# EAGLE library part TMS320VC5402 (library ti-dsp)
DSP Fixed Point
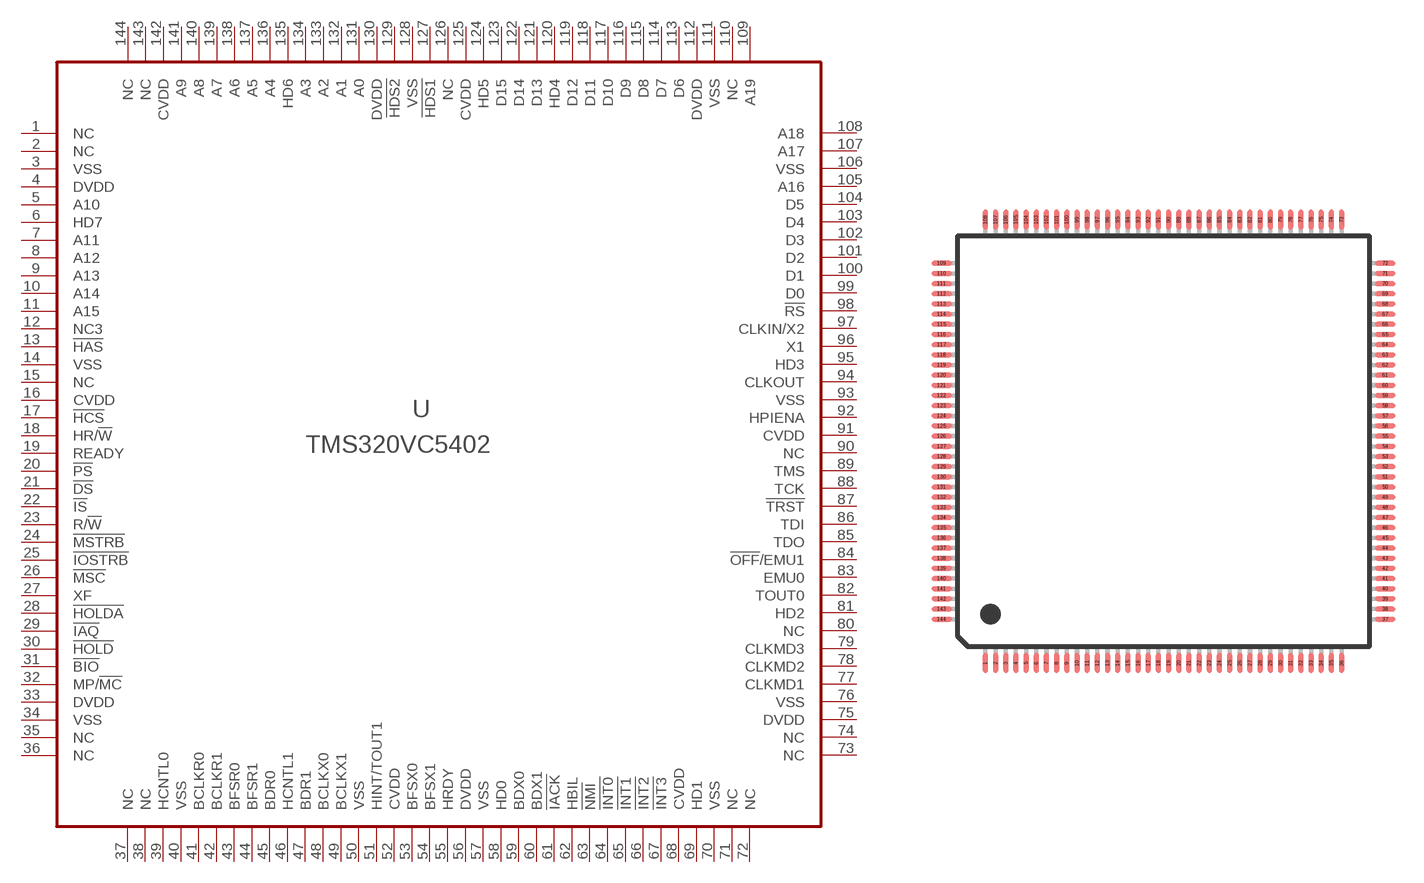
[diagram p0: symbol with the pads of PQFP144; footprint PQFP144]

Designator prefix U

## TMS320VC5402PGE  [PQFP144]
1  NC  pas
2  NC  pas
3  VSS  pwr
4  DVDD  pwr
5  A10  out
6  HD7
7  A11  out
8  A12  out
9  A13  out
10  A14  out
11  A15  out
12  NC3  pas
13  !HAS!  in
14  VSS  pwr
15  NC  pas
16  CVDD  pwr
17  !HCS!  in
18  HR/!W!  in
19  READY  in
20  !PS!  out
21  !DS!  out
22  !IS!  out
23  R/!W!  out
24  !MSTRB!  out
25  !IOSTRB!  out
26  !MSC!  out
27  XF  out
28  !HOLDA!  out
29  !IAQ!  out
30  !HOLD!  in
31  !BIO!  in
32  MP/!MC!  in
33  DVDD  pwr
34  VSS  pwr
35  NC  pas
36  NC  pas
37  NC  pas
38  NC  pas
39  HCNTL0  in
40  VSS  pwr
41  BCLKR0
42  BCLKR1
43  BFSR0
44  BFSR1
45  BDR0  in
46  HCNTL1  in
47  BDR1  in
48  BCLKX0
49  BCLKX1
50  VSS  pwr
51  HINT/TOUT1  out
52  CVDD  pwr
53  BFSX0
54  BFSX1
55  HRDY  out
56  DVDD  pwr
57  VSS  pwr
58  HD0
59  BDX0  out
60  BDX1  out
61  !IACK!  out
62  HBIL  in
63  !NMI!  in
64  !INT0!  in
65  !INT1!  in
66  !INT2!  in
67  !INT3!  in
68  CVDD  pwr
69  HD1
70  VSS  pwr
71  NC  pas
72  NC  pas
73  NC  pas
74  NC  pas
75  DVDD  pwr
76  VSS  pwr
77  CLKMD1  in
78  CLKMD2  in
79  CLKMD3  in
80  NC  pas
81  HD2
82  TOUT0  out
83  EMU0  in
84  !OFF!/EMU1  in
85  TDO  out
86  TDI  in
87  !TRST!  in
88  TCK  in
89  TMS  in
90  NC  pas
91  CVDD  pwr
92  HPIENA  in
93  VSS  pwr
94  CLKOUT  out
95  HD3
96  X1  pas
97  CLKIN/X2  in
98  !RS!  in
99  D0
100  D1
101  D2
102  D3
103  D4
104  D5
105  A16  out
106  VSS  pwr
107  A17  out
108  A18  out
109  A19  out
110  NC  pas
111  VSS  pwr
112  DVDD  pwr
113  D6
114  D7
115  D8
116  D9
117  D10
118  D11
119  D12
120  HD4
121  D13
122  D14
123  D15
124  HD5
125  CVDD  pwr
126  NC  pas
127  !HDS1!  in
128  VSS  pwr
129  !HDS2!  in
130  DVDD  pwr
131  A0  out
132  A1  out
133  A2  out
134  A3  out
135  HD6
136  A4  out
137  A5  out
138  A6  out
139  A7  out
140  A8  out
141  A9  out
142  CVDD  pwr
143  NC  pas
144  NC  pas

## Footprint PQFP144 (pad centres in mm)
PQFP-144 - Platic Quad Flat Pack PGE (S-PQFP-G144) body 20.2 mm
smd 0.25 x 1: 1 -8.75,-10.9; 2 -8.25,-10.9; 3 -7.75,-10.9; 4 -7.25,-10.9; 5 -6.75,-10.9; 6 -6.25,-10.9; 7 -5.75,-10.9; 8 -5.25,-10.9; 9 -4.75,-10.9; 10 -4.25,-10.9; 11 -3.75,-10.9; 12 -3.25,-10.9; 13 -2.75,-10.9; 14 -2.25,-10.9; 15 -1.75,-10.9; 16 -1.25,-10.9; 17 -0.75,-10.9; 18 -0.25,-10.9; 19 0.25,-10.9; 20 0.75,-10.9; 21 1.25,-10.9; 22 1.75,-10.9; 23 2.25,-10.9; 24 2.75,-10.9; 25 3.25,-10.9; 26 3.75,-10.9; 27 4.25,-10.9; 28 4.75,-10.9; 29 5.25,-10.9; 30 5.75,-10.9; 31 6.25,-10.9; 32 6.75,-10.9; 33 7.25,-10.9; 34 7.75,-10.9; 35 8.25,-10.9; 36 8.75,-10.9; 73 8.75,10.9; 74 8.25,10.9; 75 7.75,10.9; 76 7.25,10.9; 77 6.75,10.9; 78 6.25,10.9; 79 5.75,10.9; 80 5.25,10.9; 81 4.75,10.9; 82 4.25,10.9; 83 3.75,10.9; 84 3.25,10.9; 85 2.75,10.9; 86 2.25,10.9; 87 1.75,10.9; 88 1.25,10.9; 89 0.75,10.9; 90 0.25,10.9; 91 -0.25,10.9; 92 -0.75,10.9; 93 -1.25,10.9; 94 -1.75,10.9; 95 -2.25,10.9; 96 -2.75,10.9; 97 -3.25,10.9; 98 -3.75,10.9; 99 -4.25,10.9; 100 -4.75,10.9; 101 -5.25,10.9; 102 -5.75,10.9; 103 -6.25,10.9; 104 -6.75,10.9; 105 -7.25,10.9; 106 -7.75,10.9; 107 -8.25,10.9; 108 -8.75,10.9
smd 1 x 0.25: 37 10.9,-8.75; 38 10.9,-8.25; 39 10.9,-7.75; 40 10.9,-7.25; 41 10.9,-6.75; 42 10.9,-6.25; 43 10.9,-5.75; 44 10.9,-5.25; 45 10.9,-4.75; 46 10.9,-4.25; 47 10.9,-3.75; 48 10.9,-3.25; 49 10.9,-2.75; 50 10.9,-2.25; 51 10.9,-1.75; 52 10.9,-1.25; 53 10.9,-0.75; 54 10.9,-0.25; 55 10.9,0.25; 56 10.9,0.75; 57 10.9,1.25; 58 10.9,1.75; 59 10.9,2.25; 60 10.9,2.75; 61 10.9,3.25; 62 10.9,3.75; 63 10.9,4.25; 64 10.9,4.75; 65 10.9,5.25; 66 10.9,5.75; 67 10.9,6.25; 68 10.9,6.75; 69 10.9,7.25; 70 10.9,7.75; 71 10.9,8.25; 72 10.9,8.75; 109 -10.9,8.75; 110 -10.9,8.25; 111 -10.9,7.75; 112 -10.9,7.25; 113 -10.9,6.75; 114 -10.9,6.25; 115 -10.9,5.75; 116 -10.9,5.25; 117 -10.9,4.75; 118 -10.9,4.25; 119 -10.9,3.75; 120 -10.9,3.25; 121 -10.9,2.75; 122 -10.9,2.25; 123 -10.9,1.75; 124 -10.9,1.25; 125 -10.9,0.75; 126 -10.9,0.25; 127 -10.9,-0.25; 128 -10.9,-0.75; 129 -10.9,-1.25; 130 -10.9,-1.75; 131 -10.9,-2.25; 132 -10.9,-2.75; 133 -10.9,-3.25; 134 -10.9,-3.75; 135 -10.9,-4.25; 136 -10.9,-4.75; 137 -10.9,-5.25; 138 -10.9,-5.75; 139 -10.9,-6.25; 140 -10.9,-6.75; 141 -10.9,-7.25; 142 -10.9,-7.75; 143 -10.9,-8.25; 144 -10.9,-8.75